# Altium footprint library TO_THD.PCBLIB: 40 footprints (part 3 of 3)
Each footprint in its own frame and in the unit in brackets; x right, y up, seen from the top. Pads: shape width x height; smd on the part's side, far side on the other; paste and mask are expansions set on the pad; w line width, h text height; cw(c..) or ccw(c..) is an arc to the next point about the centre after c.
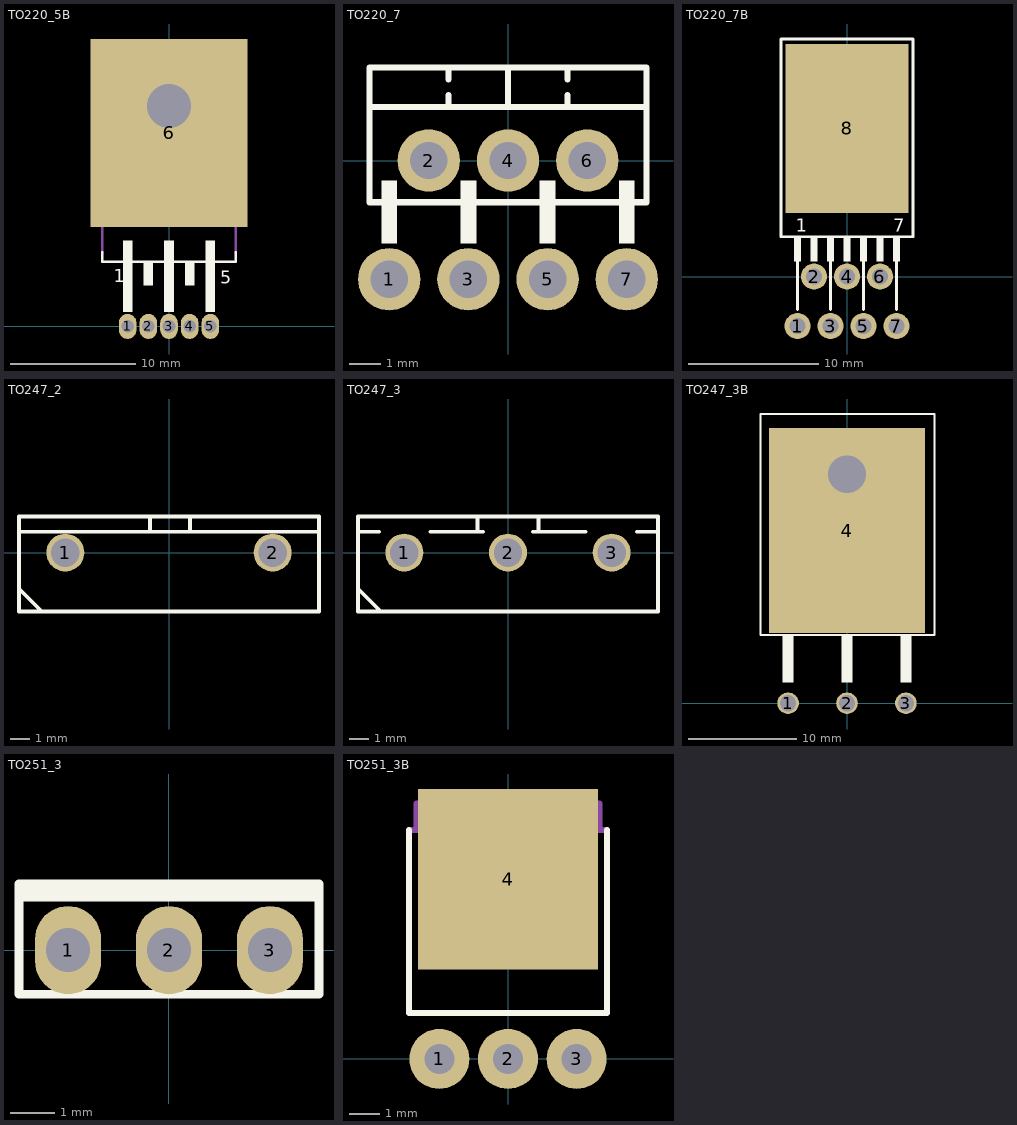
[diagram p2: the footprints below, top view; thin cyan lines are the x and y axes]

## TO220_5B [mm]
pads (6):
  oval 1.4x2 hole 1: 1(-3.302,0) 2(-1.651,0) 3(0,0) 4(1.651,0) 5(3.302,0)
  rect 12.5x15 smd: 6(0,15.447)
via 0,17.612 diameter 3.5 hole 3.5
TopOverlay:
  rectangle: 1.27,3.253 2.032,5.158
  rectangle: -2.032,3.253 -1.27,5.158
  rectangle: 2.921,1.143 3.683,6.858
  rectangle: -0.381,1.143 0.381,6.858
  rectangle: -3.683,1.143 -2.921,6.858
  lines w0.2: -5.334,5.92 -5.334,5.158 5.334,5.158 5.334,5.92
  text "5" at 4.1,3.42 h1.02
  text "1" at -4.4,3.52 h1.02
Mechanical1:
  circle w0.2: c0,17.6 r2
  lines w0.2: -5.334,5.874 -5.334,20.098 5.334,20.098 5.334,5.874
3D body "User Library-TO-220-5 BEND.STEP": height 4.56, standoff -5.94, extent -5.081,0 5.081,20.168

## TO220_7 [mm]
pads (7):
  round 2 hole 1.2: 1(-3.81,-3.81) 2(-2.54,0) 3(-1.27,-3.81) 4(0,0) 5(1.27,-3.81) 6(2.54,0) 7(3.81,-3.81)
TopOverlay:
  rectangle: 3.556,-2.667 4.064,-0.635
  rectangle: 1.016,-2.667 1.524,-0.635
  rectangle: -1.524,-2.667 -1.016,-0.635
  rectangle: -4.064,-2.667 -3.556,-0.635
  lines w0.2: -4.445,1.713 4.445,1.713 ; -1.905,1.713 -1.905,2.094 ; -1.905,2.602 -1.905,2.983 ; 0,1.713 0,2.983 ; 1.905,1.713 1.905,2.094 ; 1.905,2.602 1.905,2.983 ; -4.445,-1.335 -4.445,2.983 4.445,2.983 4.445,-1.335 -4.445,-1.335
3D body "User Library-TO-220-7.step": height 20.3, standoff -3.22, extent -5.08,-3.9 5.08,2.838

## TO220_7B [mm]
pads (8):
  round 2 hole 1.2: 1(-3.81,-3.81) 2(-2.54,0) 3(-1.27,-3.81) 4(0,0) 5(1.27,-3.81) 6(2.54,0) 7(3.81,-3.81)
  rect 9.5x13 smd: 8(0,11.41)
TopOverlay:
  circle w0.2: c0,15.24 r2.032
  rectangle: -4.064,1.143 -3.556,3.048
  rectangle: -2.794,1.143 -2.286,3.048
  rectangle: -1.524,1.143 -1.016,3.048
  rectangle: -0.254,1.143 0.254,3.048
  rectangle: 1.016,1.143 1.524,3.048
  rectangle: 2.286,1.143 2.794,3.048
  rectangle: 3.556,1.143 4.064,3.048
  lines w0.2: -3.81,-2.54 -3.81,3.048 ; -1.27,-2.54 -1.27,3.048 ; 1.27,-2.54 1.27,3.048 ; 3.81,-2.54 3.81,3.048 ; -5.08,3.048 5.08,3.048 5.08,18.288 -5.08,18.288 -5.08,3.048
  text "1" at -3.937,3.429 h1.02
  text "7" at 3.556,3.429 h1.02

## TO247_2 [mm]
height 2
pads (2):
  round 2 / inner round 2 / far side oval 2.4x3.6 hole 1.5: 1(-5.461,0) 2(5.461,0)
TopOverlay:
  lines w0.2: -7.9,-1.9 -6.7,-3.1 ; -7.9,1.1 7.9,1.1 ; -1,1.1 -1,1.9 ; 1.1,1.1 1.1,1.9 ; -7.9,-3.1 7.9,-3.1 7.9,1.9 -7.9,1.9 -7.9,-3.1
3D body "User Library-TO-3P-3LD.step": height 23.9, standoff -16, extent -7.8,-3 7.8,1.8

## TO247_3 [mm] "TO247, TO-247, TO-3P pitch: 5.5mm 16x5mm, TO-218"
pads (3):
  round 2 / inner round 2 / far side oval 2.4x3.6 hole 1.5: 1(-5.461,0) 2(0,0) 3(5.461,0)
TopOverlay:
  lines w0.2: -7.9,-1.9 -6.7,-3.1 ; -7.9,1.1 -6.8,1.1 ; -4.1,1.1 -1.3,1.1 ; -1.6,1.1 -1.6,1.9 ; 1.3,1.1 4.1,1.1 ; 1.6,1.1 1.6,1.9 ; 6.8,1.1 7.9,1.1 ; -7.9,-3.1 -7.9,1.9 7.9,1.9 7.9,-3.1 -7.9,-3.1
3D body "User Library-TO-3P-3LD.step": height 23.9, standoff -16, extent -7.8,-3 7.8,1.8

## TO247_3B [mm] "TO247, TO-247, TO-3P BENDED, pitch: 5.5mm  TO-218"
pads (4):
  round 2 / inner round 2 / far side oval 2.4x3.6 hole 1.5: 1(-5.461,0) 2(0,0) 3(5.461,0)
  rect 14.5x19 smd: 4(0,16.001)
via 0,21.212 diameter 3.5 hole 3.5
TopOverlay:
  rectangle: -0.508,1.9 0.508,6.3
  rectangle: -5.988,1.9 -4.972,6.3
  region: 5.988,6.3 4.972,6.3 4.972,1.9 5.988,1.9
  lines w0.2: -8,6.318 8.1,6.318 8.1,26.8 -8,26.8 -8,6.318
  text "1" at -5.334,6.953 h1.02
  text "3" at 4.953,6.953 h1.02
Mechanical1:
  circle w0.2: c0,21.2 r2
3D body "User Library-TO-247_bent_leads.step": height 5.4, standoff -6.6, extent -7.95,-0.3 7.95,26.682

## TO251_3 [mm] "TO-251 IPAK pitch: 2.3mm 6.5x6.5mm"
pads (3):
  oval 1.5x2 hole 1: 1(-2.286,0) 2(0,0) 3(2.286,0)
TopOverlay:
  rectangle: -3.3,1.1 3.3,1.505
  lines w0.2: -3.4,-1 -3.4,1.5 3.4,1.5 3.4,-1 -3.4,-1
3D body "User Library-TO-251AA(IPak).step": height 9.46, standoff -3.92, extent -3.3,-0.9 3.3,1.4

## TO251_3B [mm] "TO251, TO-251, IPAK BEND pitch: 2.3mm 6.5x6.5mm"
pads (4):
  round 2 hole 1: 1(-2.286,0) 2(0,0) 3(2.286,0)
  rect 6x6 smd: 4(0,5.984)
TopOverlay:
  lines w0.2: -3.302,7.62 -3.302,1.524 3.302,1.524 3.302,7.62
Mechanical1:
  lines w0.2: -3.302,7.62 3.302,7.62 ; -3.048,7.62 -3.048,8.509 3.048,8.509 3.048,7.62
3D body "User Library-TO-251AA(IPak).step": height 2.4, standoff 0.1, extent -3.3,-4.92 3.3,8.46